# Altium schematic symbol library TPS564247DRLR.SchLib: 2 symbols
Pins are listed as number, name and electrical type; pins without a type are passive.

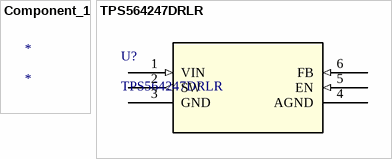
[diagram p0: symbols Component_1 to TPS564247DRLR]

## Component_1
designator *

## TPS564247DRLR
designator U?
No Description Available; Mfr_Name: Texas Instruments; Copyright: Copyright (C) 2022 Ultra Librarian. All rights reserved.; Manufacturer_Part_Number: TPS564247DRLR; RefDes: RefDes; Type: DEV
footprint SOT5x3-6_DRL_TEX
pins: 1 VIN (in), 2 SW (out), 3 GND, 4 AGND, 5 EN (in), 6 FB (in)